# EAGLE library part HRS1(H) (library Aldar)
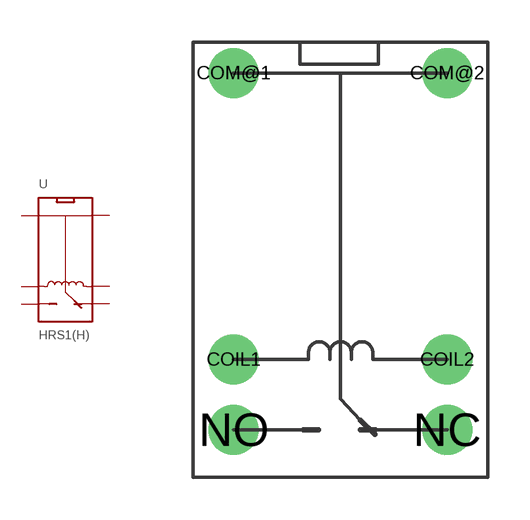
[diagram p3: symbol with the pads of HRS1(H); footprint HRS1(H)]

Designator prefix -

## HRS1(H)  [HRS1(H)]
COIL1  COIL1  sup
COIL2  COIL2  sup
COM@1  COM
COM@2  COM
NC  NC
NO  NO

## Footprint HRS1(H) (pad centres in mm)
drill 0.8 pad 1.778: COIL1 1.45,-11.3; COIL2 9.05,-11.3; COM@1 1.45,-1.1; COM@2 9.05,-1.1; NC 9.05,-13.8; NO 1.45,-13.8